# Altium footprint library 1602a.PcbLib: 1 footprints
Each footprint in its own frame and in the unit in brackets; x right, y up, seen from the top. Pads: shape width x height; smd on the part's side, far side on the other; paste and mask are expansions set on the pad; w line width, h text height; cw(c..) or ccw(c..) is an arc to the next point about the centre after c.
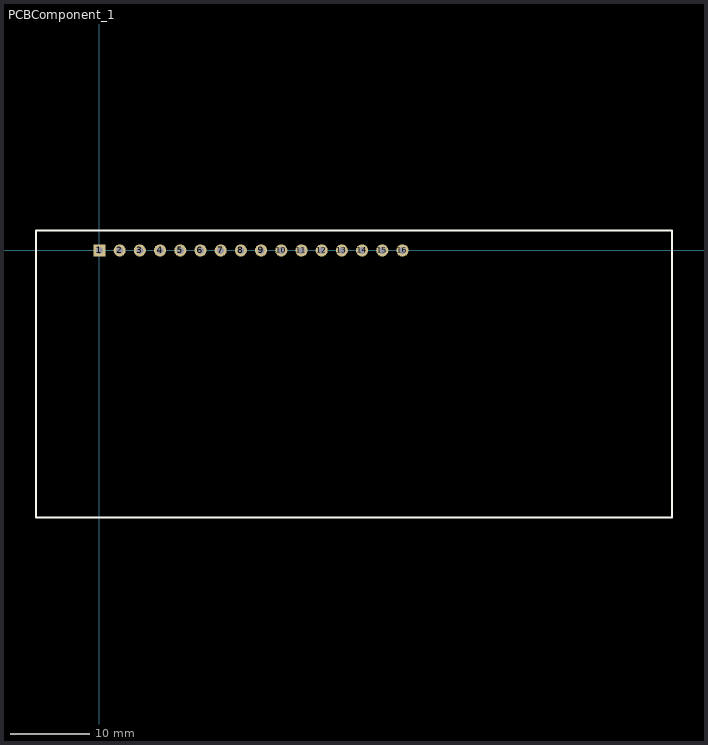
[diagram p0: the footprint, top view; thin cyan lines are the x and y axes]

## PCBComponent_1 [mil]
pads (16):
  rect 60x60 hole 35: 1(0,0)
  round 60 hole 35: 2(100,0) 3(200,0) 4(300,0) 5(400,0) 6(500,0) 7(600,0) 8(700,0) 9(800,0) 10(900,0) 11(1000,0) 12(1100,0) 13(1200,0) 14(1300,0) 15(1400,0) 16(1500,0)
Top Overlay:
  lines w10: -315,-1321.6 2835,-1321.6 2835,98.4 -315,98.4 ; -315,-1320 -315,97.3
Drill Guide:
  circle w10: c2744.45,7.85 r55.12
  circle w10: c-224.45,6.75 r55.12
  circle w10: c-224.45,-1229.45 r55.12
  circle w10: c2744.45,-1231.05 r55.12
3D body: height 629.92, standoff 425.2, extent -320,-1326.6 2840,103.4